# Altium schematic symbol library IAP.SchLib: 1 symbol
Pins are listed as number, name and electrical type; pins without a type are passive.

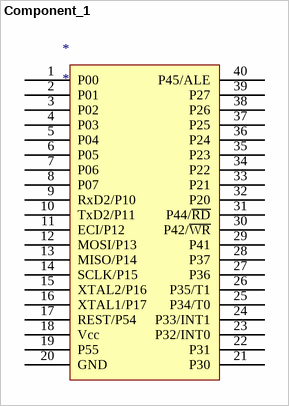
[diagram p0: symbol Component_1]

## Component_1
designator *
pins: 1 P00, 2 P01, 3 P02, 4 P03, 5 P04, 6 P05, 7 P06, 8 P07, 9 RxD2/P10, 10 TxD2/P11, 11 ECI/P12, 12 MOSI/P13, 13 MISO/P14, 14 SCLK/P15, 15 XTAL2/P16, 16 XTAL1/P17, 17 REST/P54, 18 Vcc, 19 P55, 20 GND, 21 P30, 22 P31, 23 P32/INT0, 24 P33/INT1, 25 P34/T0, 26 P35/T1, 27 P36, 28 P37, 29 P41, 30 P42/~{WR}, 31 P44/~{RD}, 32 P20, 33 P21, 34 P22, 35 P23, 36 P24, 37 P25, 38 P26, 39 P27, 40 P45/ALE